# Altium schematic symbol library Personal_Schematic_Library_2022.SchLib: 863 symbols (part 8 of 8)
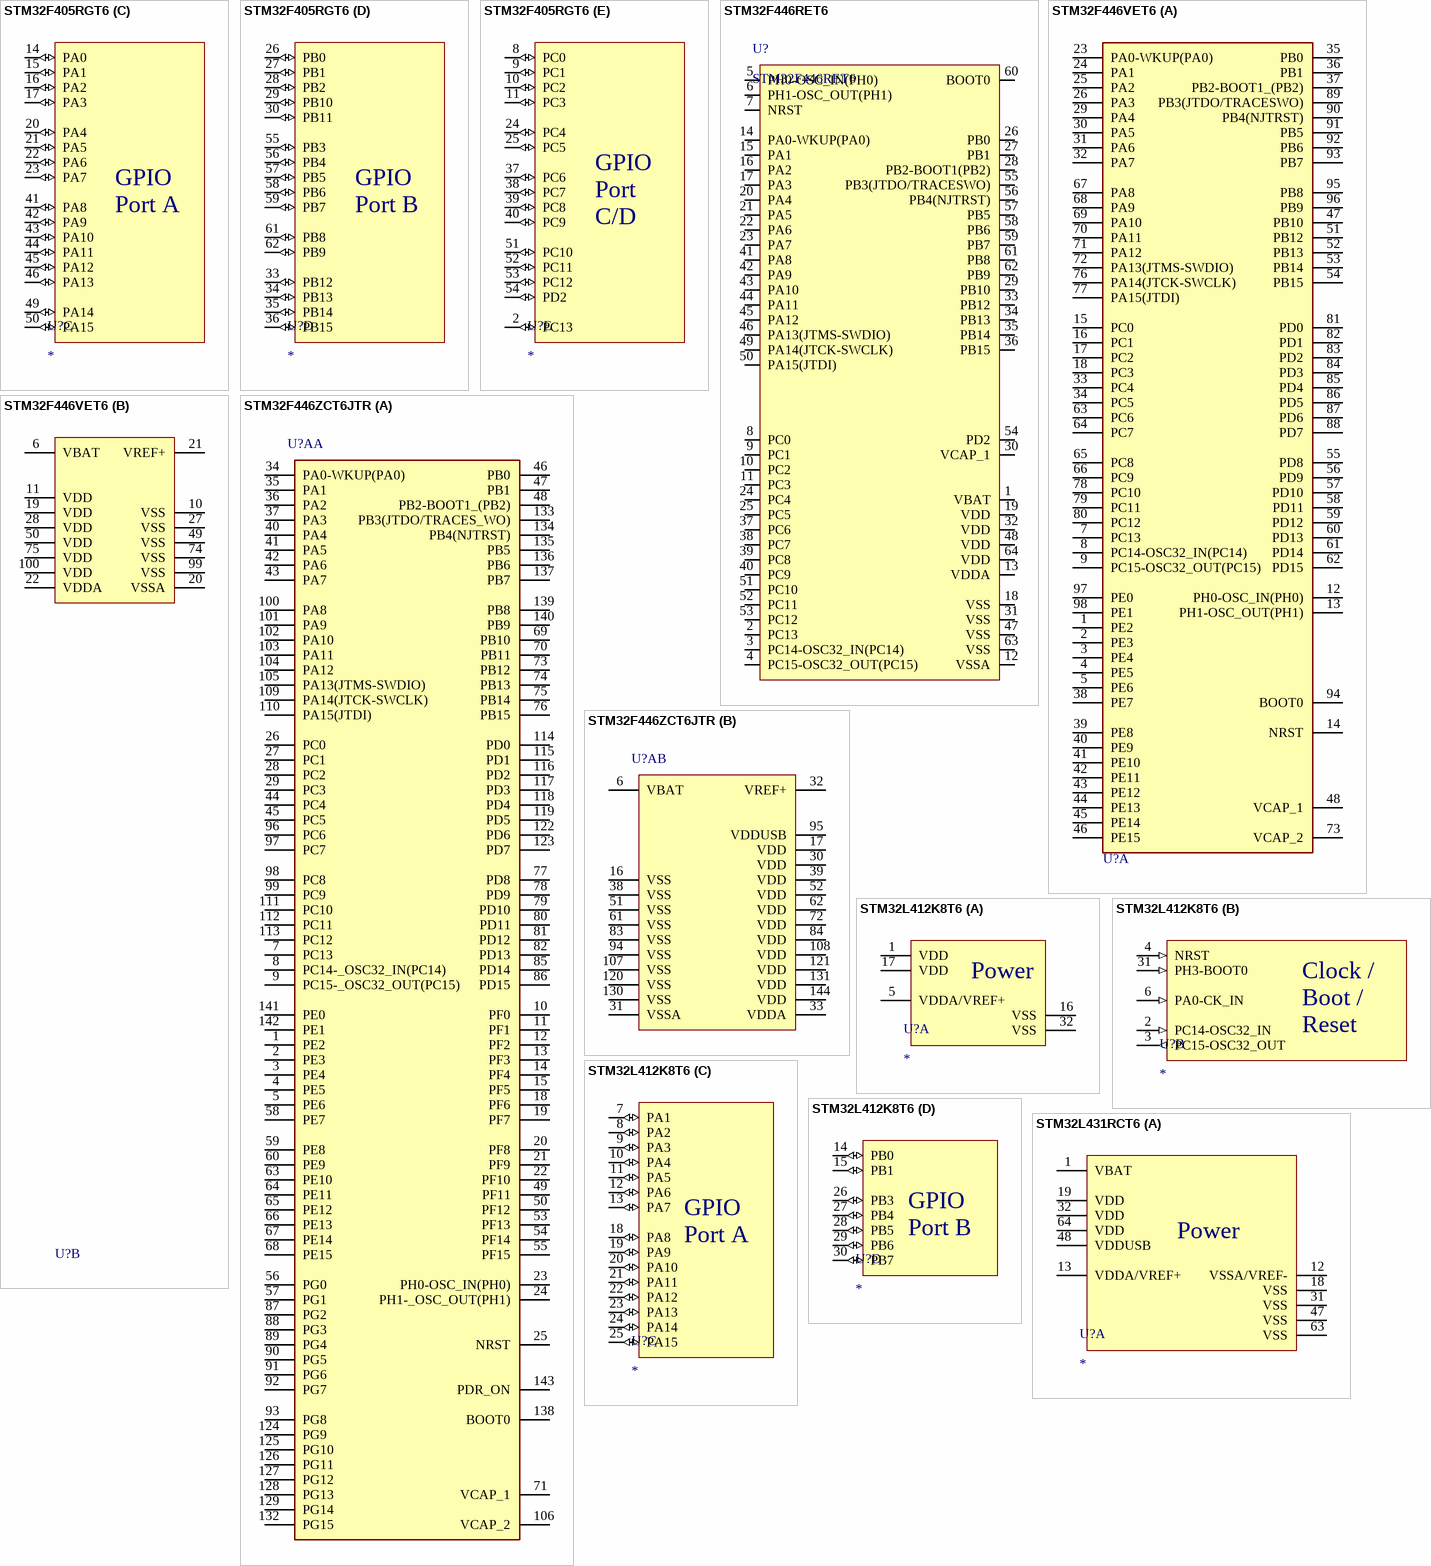
[diagram p36: symbols STM32F405RGT6 to STM32L431RCT6]

## STM32F405RGT6
designator U?
IC MCU 32BIT 1MB FLASH 64LQFP; Manufacturer 1: STMicroelectronics; Manufacturer Part Number 1: STM32F405RGT6; Package/Footprint: 64-LQFP; Supplier 1: Digi-Key; Supplier Part Number 1: 497-11767-ND
footprint STM_LQFP64 (Thin QFP, 64-Leads, Body 10x10mm, Pitch 0.5mm, IPC Medium Density)
part A pins: 1 VBAT (power), 12 VSSA/VREF- (power), 13 VDDA/VREF+ (power), 18 VSS (power), 19 VDD (power), 31 VCAP1 (power), 32 VDD (power), 47 VCAP2 (power), 48 VDD (power), 63 VSS (power), 64 VDD (power)
part B pins: 3 PC14-OSC32_IN (in), 4 PC15-OSC32_OUT (out), 5 PH0-OSC-IN (in), 6 PH1-OSC-OUT (out), 7 NRST (in), 60 BOOT0 (in)
part C pins: 14 PA0 (io), 15 PA1 (io), 16 PA2 (io), 17 PA3 (io), 20 PA4 (io), 21 PA5 (io), 22 PA6 (io), 23 PA7 (io), 41 PA8 (io), 42 PA9 (io), 43 PA10 (io), 44 PA11 (io), 45 PA12 (io), 46 PA13 (io), 49 PA14 (io), 50 PA15 (io)
part D pins: 26 PB0 (io), 27 PB1 (io), 28 PB2 (io), 29 PB10 (io), 30 PB11 (io), 33 PB12 (io), 34 PB13 (io), 35 PB14 (io), 36 PB15 (io), 55 PB3 (io), 56 PB4 (io), 57 PB5 (io), 58 PB6 (io), 59 PB7 (io), 61 PB8 (io), 62 PB9 (io)
part E pins: 2 PC13 (io), 8 PC0 (io), 9 PC1 (io), 10 PC2 (io), 11 PC3 (io), 24 PC4 (io), 25 PC5 (io), 37 PC6 (io), 38 PC7 (io), 39 PC8 (io), 40 PC9 (io), 51 PC10 (io), 52 PC11 (io), 53 PC12 (io), 54 PD2 (io)
part A text: Power
part B text: Clock / / Boot / / Reset
part C text: GPIO / Port A
part D text: GPIO / Port B
part E text: GPIO / Port C/D

## STM32F446RET6
designator U?
IC MCU 32BIT 512KB FLASH 64LQFP; Manufacturer 1: STMicroelectronics; Manufacturer Part Number 1: LF80CDT-TR; Supplier 1: Digi-Key; Supplier Part Number 1: 497-15376-ND
footprint STM_LQFP64_N (Thin QFP, 64-Leads, Body 10x10mm, Pitch 0.5mm, IPC Medium Density)
pins: 1 VBAT, 2 PC13 "PC13/EVENTOUT/TAMP_1/WKUP1", 3 PC14-OSC32_IN(PC14) "PC14/EVENTOUT/OSC32_IN", 4 PC15-OSC32_OUT(PC15) "PC15/EVENTOUT/OSC32_OUT", 5 PH0-OSC_IN(PH0) "PH0/EVENTOUT/OSC_IN", 6 PH1-OSC_OUT(PH1) "PH1/EVENTOUT/OSC_OUT", 7 NRST, 8 PC0 "PC0/SAI1_MCLK_B,OTG_HS_ULPI_STP,FMC_SDNWE,EVENTOUT/ADC123_IN10", 9 PC1 "PC1/SPI3_MOSI/I2S3_SD,SAI1_SD_A,SPI2_MOSI/I2S2_SD,EVENTOUT/ADC123_IN11", 10 PC2 "PC2/SPI2_MISO,OTG_HS_ULPI_DIR,FMC_SDNE0,EVENTOUT/ADC123_IN12", 11 PC3 "PC3/SPI2_MOSI/I2S2_SD,OTG_HS_ULPI_NXT,FMC_SDCKE0,EVENTOUT/ADC123_IN13", 12 VSSA, 13 VDDA, 14 PA0-WKUP(PA0) "PA0-WKUP(PA0)/TIM2_CH1/TIM2_ETR,TIM5_CH1,TIM8_ETR,USART2_CTS,UART4_TX,EVENTOUT/ADC123_IN0,WKUP0/TAMP_2", 15 PA1 "PA1/TIM2_CH2,TIM5_CH2,USART2_RTS,UART4_RX,QUADSPI_BK1_IO3,SAI2_MCLK_B,EVENTOUT/ADC123_IN1", 16 PA2 "PA2/TIM2_CH3,TIM5_CH3,TIM9_CH1,USART2_TX,SAI2_SCK_B,EVENTOUT/ADC123_IN2", 17 PA3 "PA3/TIM2_CH4,TIM5_CH4,TIM9_CH2,SAI1_FS_A,USART2_RX,OTG_HS_ULPI_D0,EVENTOUT/ADC123_IN3", 18 VSS, 19 VDD, 20 PA4 "PA4/SPI1_NSS/I2S1_WS,SPI3_NSS/I2S3_WS,USART2_CK,OTG_HS_SOF,DCMI_HSYNC,EVENTOUT/ADC12_IN4,DAC_OUT1", 21 PA5 "PA5/TIM2_CH1/TIM2_ETR,TIM8_CH1N,SPI1_SCK/I2S1_CK,OTG_HS_ULPI_CK,EVENTOUT/ADC12_IN5,DAC_OUT2", 22 PA6 "PA6/TIM1_BKIN,TIM3_CH1,TIM8_BKIN,SPI1_MISO,I2S2_MCK,TIM13_CH1,DCMI_PIXCLK,EVENTOUT/ADC12_IN6", 23 PA7 "PA7/TIM1_CH1N,TIM3_CH2,TIM8_CH1N,SPI1_MOSI/I2S1_SD,TIM14_CH1,FMC_SDNWE,EVENTOUT/ADC12_IN7", 24 PC4 "PC4/I2S1_MCK,SPDIFRX_IN2,FMC_SDNE0,EVENTOUT/ADC12_IN14", 25 PC5 "PC5/USART3_RX,SPDIFRX_IN3,FMC_SDCKE0,EVENTOUT/ADC12_IN15", 26 PB0 "PB0/TIM1_CH2N,TIM3_CH3,TIM8_CH2N,SPI3_MOSI/I2S3_SD,UART4_CTS,OTG_HS_ULPI_D1,SDIO_D1,EVENTOUT/ADC12_IN8", 27 PB1 "PB1/TIM1_CH3N,TIM3_CH4,TIM8_CH3N,OTG_HS_ULPI_D2,SDIO_D2,EVENTOUT/ADC12_IN9", 28 PB2-BOOT1(PB2) "PB2-BOOT1(PB2)/TIM2_CH4,SAI1_SD_A,SPI3_MOSI/I2S3_SD,QUADSPI_CLK,OTG_HS_ULPI_D4,SDIO_CK,EVENTOUT", 29 PB10 "PB10/TIM2_CH3,I2C2_SCL,SPI2_SCK/I2S2_CK,SAI1_SCK_A,USART3_TX,OTG_HS_ULPI_D3,EVENTOUT", 30 VCAP_1, 31 VSS, 32 VDD, 33 PB12 "PB12/TIM1_BKIN,I2C2_SMBA,SPI2_NSS/I2S2_WS,SAI1_SCK_B,USART3_CK,CAN2_RX,OTG_HS_ULPI_D5,OTG_HS_ID,EVENTOUT", 34 PB13 "PB13/TIM1_CH1N,SPI2_SCK/I2S2_CK,USART3_CTS,CAN2_TX,OTG_HS_ULPI_D6,EVENTOUT/OTG_HS_VBUS", 35 PB14 "PB14/TIM1_CH2N,TIM8_CH2N,SPI2_MISO,USART3_RTS,TIM12_CH1,OTG_HS_DM,EVENTOUT", 36 PB15 "PB15/RTC_REFIN,TIM1_CH3N,TIM8_CH3N,SPI2_MOSI/I2S2_SD,TIM12_CH2,OTG_HS_DP,EVENTOUT", 37 PC6 "PC6/TIM3_CH1,TIM8_CH1,FMPI2C1_SCL,I2S2_MCK,USART6_TX,SDIO_D6,DCMI_D0,EVENTOUT", 38 PC7 "PC7/TIM3_CH2,TIM8_CH2,FMPI2C1_SDA,SPI2_SCK/I2S2_CK,I2S3_MCK,SPDIFRX_IN1,USART6_RX,SDIO_D7,DCMI_D1,EVENTOUT", 39 PC8 "PC8/TRACED0,TIM3_CH3,TIM8_CH3,UART5_RTS,USART6_CK,SDIO_D0,DCMI_D2,EVENTOUT", 40 PC9 "PC9/MCO2,TIM3_CH4,TIM8_CH4,I2C3_SDA,I2S_CKIN,UART5_CTS,QUADSPI_BK1_IO0,SDIO_D1,DCMI_D3,EVENTOUT", 41 PA8 "PA8/MCO1,TIM1_CH1,I2C3_SCL,USART1_CK,OTG_FS_SOF,EVENTOUT", 42 PA9 "PA9/TIM1_CH2,I2C3_SMBA,SPI2_SCK/I2S2_CK,SAI1_SD_B,USART1_TX,DCMI_D0,EVENTOUT/OTG_FS_VBUS", 43 PA10 "PA10/TIM1_CH3,USART1_RX,OTG_FS_ID,DCMI_D1,EVENTOUT", 44 PA11 "PA11/TIM1_CH4,USART1_CTS,CAN1_RX,OTG_FS_DM,EVENTOUT", 45 PA12 "PA12/TIM1_ETR,USART1_RTS,SAI2_FS_B,CAN1_TX,OTG_FS_DP,EVENTOUT", 46 PA13(JTMS-SWDIO) "PA13/JTMS-SWDIO,EVENTOUT", 47 VSS, 48 VDD, 49 PA14(JTCK-SWCLK) "PA14/JTCK-SWCLK,EVENTOUT", 50 PA15(JTDI) "PA15/JTDI,TIM2_CH1/TIM2_ETR,HDMI_CEC,SPI1_NSS/I2S1_WS,SPI3_NSS/I2S3_WS,UART4_RTS,EVENTOUT", 51 PC10 "PC10/SPI3_SCK/I2S3_CK,USART3_TX,UART4_TX,QUADSPI_BK1_IO1,SDIO_D2,DCMI_D8,EVENTOUT", 52 PC11 "PC11/SPI3_MISO,USART3_RX,UART4_RX,QUADSPI_BK2_NCS,SDIO_D3,DCMI_D4,EVENTOUT", 53 PC12 "PC12/I2C2_SDA,SPI3_MOSI/I2S3_SD,USART3_CK,UART5_TX,SDIO_CK,DCMI_D9,EVENTOUT", 54 PD2 "PD2/TIM3_ETR,UART5_RX,SDIO_CMD,DCMI_D11,EVENTOUT", 55 PB3(JTDO/TRACESWO) "PB3/JTDO/TRACESWO,TIM2_CH2,I2C2_SDA,SPI1_SCK/I2S1_CK,SPI3_SCK/I2S3_CK,EVENTOUT", 56 PB4(NJTRST) "PB4/NJTRST,TIM3_CH1,I2C3_SDA,SPI1_MISO,SPI3_MISO,SPI2_NSS/I2S2_WS,EVENTOUT", 57 PB5 "PB5/TIM3_CH2,I2C1_SMBA,SPI1_MOSI/I2S1_SD,SPI3_MOSI/I2S3_SD,CAN2_RX,OTG_HS_ULPI_D7,FMC_SDCKE1,DCMI_D10,EVENTOUT", 58 PB6 "PB6/TIM4_CH1,HDMI_CEC,I2C1_SCL,USART1_TX,CAN2_TX,QUADSPI_BK1_NCS,FMC_SDNE1,DCMI_D5,EVENTOUT", 59 PB7 "PB7/TIM4_CH2,I2C1_SDA,USART1_RX,SPDIFRX_IN0,FMC_NL,DCMI_VSYNC,EVENTOUT", 60 BOOT0 "BOOT0/VPP", 61 PB8 "PB8/TIM2_CH1/TIM2_ETR,TIM4_CH3,TIM10_CH1,I2C1_SCL,CAN1_RX,SDIO_D4,DCMI_D6,EVENTOUT", 62 PB9 "PB9/TIM2_CH2,TIM4_CH4,TIM11_CH1,I2C1_SDA,SPI2_NSS/I2S2_WS,SAI1_FS_B,CAN1_TX,SDIO_D5,DCMI_D7,EVENTOUT", 63 VSS, 64 VDD

## STM32F446VET6
designator U?
IC MCU 32BIT 512KB FLASH 100LQFP; Manufacturer 1: STMicroelectronics; Manufacturer Part Number 1: STM32F446VET6TR; Power Supplies: 1.8/3.3V; Speed: 180RPM; Max Supply Current: 115mA; Qualification Status: Not Qualified; Package/Footprint: 100-LQFP; Supplier 1: Digi-Key; Package Code: QFP; Number of Pins: 100; Surface Mount: Yes; Terminal Pitch: 0.5mm; Supplier Part Number 1: 497-19359-1-ND; Mounting Type: SMD
footprint STM32F446VET6 (LQFP100)
part A pins: 1 PE2, 2 PE3, 3 PE4, 4 PE5, 5 PE6, 7 PC13, 8 PC14-OSC32_IN(PC14), 9 PC15-OSC32_OUT(PC15), 12 PH0-OSC_IN(PH0), 13 PH1-OSC_OUT(PH1), 14 NRST, 15 PC0, 16 PC1, 17 PC2, 18 PC3, 23 PA0-WKUP(PA0), 24 PA1, 25 PA2, 26 PA3, 29 PA4, 30 PA5, 31 PA6, 32 PA7, 33 PC4, 34 PC5, 35 PB0, 36 PB1, 37 PB2-BOOT1_(PB2), 38 PE7, 39 PE8, 40 PE9, 41 PE10, 42 PE11, 43 PE12, 44 PE13, 45 PE14, 46 PE15, 47 PB10, 48 VCAP_1, 51 PB12, 52 PB13, 53 PB14, 54 PB15, 55 PD8, 56 PD9, 57 PD10, 58 PD11, 59 PD12, 60 PD13, 61 PD14, 62 PD15, 63 PC6, 64 PC7, 65 PC8, 66 PC9, 67 PA8, 68 PA9, 69 PA10, 70 PA11, 71 PA12, 72 PA13(JTMS-SWDIO), 73 VCAP_2, 76 PA14(JTCK-SWCLK), 77 PA15(JTDI), 78 PC10, 79 PC11, 80 PC12, 81 PD0, 82 PD1, 83 PD2, 84 PD3, 85 PD4, 86 PD5, 87 PD6, 88 PD7, 89 PB3(JTDO/TRACESWO), 90 PB4(NJTRST), 91 PB5, 92 PB6, 93 PB7, 94 BOOT0, 95 PB8, 96 PB9, 97 PE0, 98 PE1
part B pins: 6 VBAT, 10 VSS, 11 VDD, 19 VDD, 20 VSSA, 21 VREF+, 22 VDDA, 27 VSS, 28 VDD, 49 VSS, 50 VDD, 74 VSS, 75 VDD, 99 VSS, 100 VDD

## STM32F446ZCT6JTR
designator U?A
IC MCU 32BIT 256KB FLASH 144LQFP
footprint QFP50P2200X2200X160-144N
part A pins: 1 PE2, 2 PE3, 3 PE4, 4 PE5, 5 PE6, 7 PC13, 8 PC14-_OSC32_IN(PC14), 9 PC15-_OSC32_OUT(PC15), 10 PF0, 11 PF1, 12 PF2, 13 PF3, 14 PF4, 15 PF5, 18 PF6, 19 PF7, 20 PF8, 21 PF9, 22 PF10, 23 PH0-OSC_IN(PH0), 24 PH1-_OSC_OUT(PH1), 25 NRST, 26 PC0, 27 PC1, 28 PC2, 29 PC3, 34 PA0-WKUP(PA0), 35 PA1, 36 PA2, 37 PA3, 40 PA4, 41 PA5, 42 PA6, 43 PA7, 44 PC4, 45 PC5, 46 PB0, 47 PB1, 48 PB2-BOOT1_(PB2), 49 PF11, 50 PF12, 53 PF13, 54 PF14, 55 PF15, 56 PG0, 57 PG1, 58 PE7, 59 PE8, 60 PE9, 63 PE10, 64 PE11, 65 PE12, 66 PE13, 67 PE14, 68 PE15, 69 PB10, 70 PB11, 71 VCAP_1, 73 PB12, 74 PB13, 75 PB14, 76 PB15, 77 PD8, 78 PD9, 79 PD10, 80 PD11, 81 PD12, 82 PD13, 85 PD14, 86 PD15, 87 PG2, 88 PG3, 89 PG4, 90 PG5, 91 PG6, 92 PG7, 93 PG8, 96 PC6, 97 PC7, 98 PC8, 99 PC9, 100 PA8, 101 PA9, 102 PA10, 103 PA11, 104 PA12, 105 PA13(JTMS-SWDIO), 106 VCAP_2, 109 PA14(JTCK-SWCLK), 110 PA15(JTDI), 111 PC10, 112 PC11, 113 PC12, 114 PD0, 115 PD1, 116 PD2, 117 PD3, 118 PD4, 119 PD5, 122 PD6, 123 PD7, 124 PG9, 125 PG10, 126 PG11, 127 PG12, 128 PG13, 129 PG14, 132 PG15, 133 PB3(JTDO/TRACES_WO), 134 PB4(NJTRST), 135 PB5, 136 PB6, 137 PB7, 138 BOOT0, 139 PB8, 140 PB9, 141 PE0, 142 PE1, 143 PDR_ON
part B pins: 6 VBAT, 16 VSS, 17 VDD, 30 VDD, 31 VSSA, 32 VREF+, 33 VDDA, 38 VSS, 39 VDD, 51 VSS, 52 VDD, 61 VSS, 62 VDD, 72 VDD, 83 VSS, 84 VDD, 94 VSS, 95 VDDUSB, 107 VSS, 108 VDD, 120 VSS, 121 VDD, 130 VSS, 131 VDD, 144 VDD

## STM32L412K8T6
designator U?
IC MCU 32BIT 64KB FLASH 32LQFP; Manufacturer 1: STMicroelectronics; Manufacturer Part Number 1: STM32L412K8T6; Package/Footprint: 32-LQFP; Supplier 1: Digi-Key; Supplier Part Number 1: 497-STM32L412K8T6-ND
footprint STM-LQFP32
part A pins: 1 VDD (power), 5 VDDA/VREF+ (power), 16 VSS (power), 17 VDD (power), 32 VSS (power)
part B pins: 2 PC14-OSC32_IN (in), 3 PC15-OSC32_OUT (out), 4 NRST (in), 6 PA0-CK_IN (in), 31 PH3-BOOT0 (in)
part C pins: 7 PA1 (io), 8 PA2 (io), 9 PA3 (io), 10 PA4 (io), 11 PA5 (io), 12 PA6 (io), 13 PA7 (io), 18 PA8 (io), 19 PA9 (io), 20 PA10 (io), 21 PA11 (io), 22 PA12 (io), 23 PA13 (io), 24 PA14 (io), 25 PA15 (io)
part D pins: 14 PB0 (io), 15 PB1 (io), 26 PB3 (io), 27 PB4 (io), 28 PB5 (io), 29 PB6 (io), 30 PB7 (io)
part A text: Power
part B text: Clock / / Boot / / Reset
part C text: GPIO / Port A
part D text: GPIO / Port B

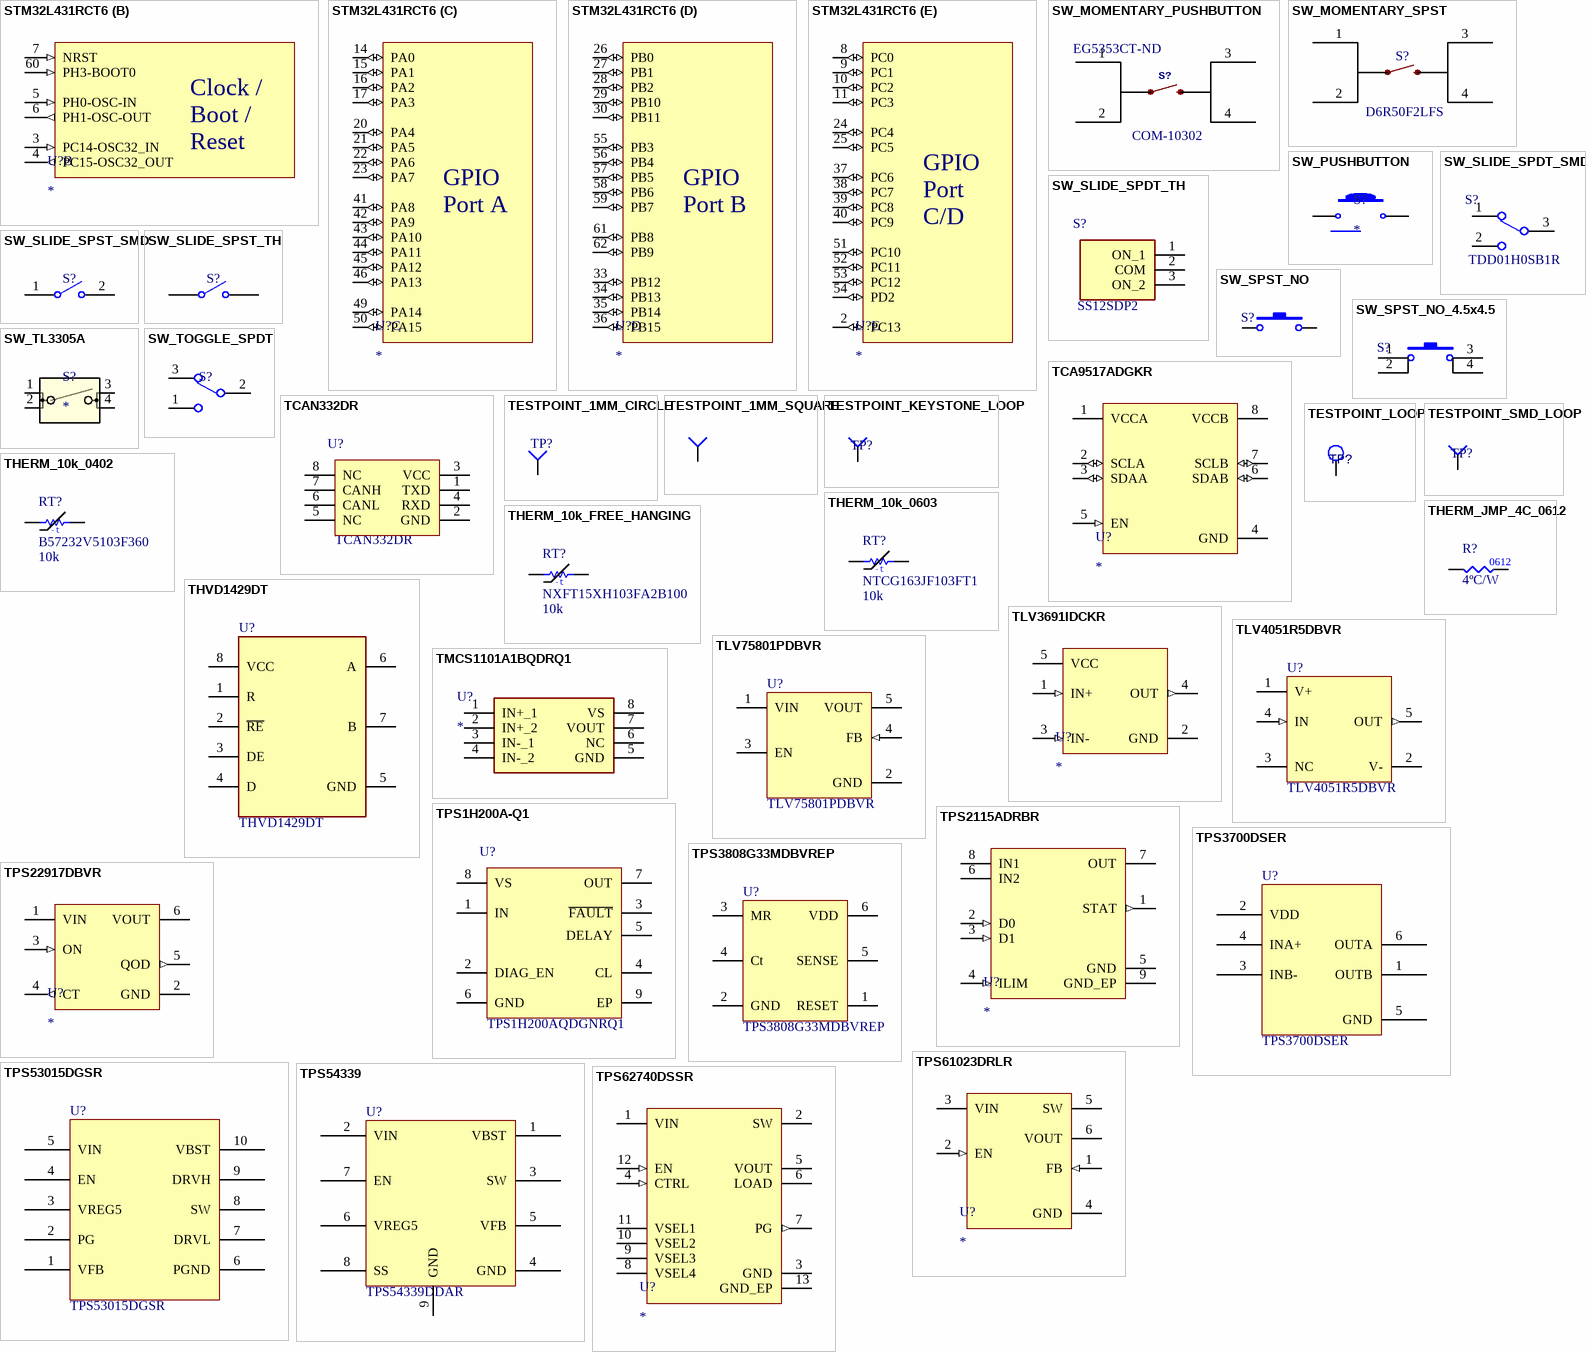
[diagram p28: symbols STM32L431RCT6 to TPS62740DSSR]

## STM32L431RCT6
designator U?
IC MCU 32BIT 256KB FLASH 64LQFP; Manufacturer 1: STMicroelectronics; Manufacturer Part Number 1: STM32L431RCT6; Package/Footprint: 64-LQFP; Supplier 1: Digi-Key; Supplier Part Number 1: 497-17960-ND
footprint STM_LQFP64 (Thin QFP, 64-Leads, Body 10x10mm, Pitch 0.5mm, IPC Medium Density)
part A pins: 1 VBAT (power), 12 VSSA/VREF- (power), 13 VDDA/VREF+ (power), 18 VSS (power), 19 VDD (power), 31 VSS (power), 32 VDD (power), 47 VSS (power), 48 VDDUSB (power), 63 VSS (power), 64 VDD (power)
part B pins: 3 PC14-OSC32_IN (in), 4 PC15-OSC32_OUT (out), 5 PH0-OSC-IN (in), 6 PH1-OSC-OUT (out), 7 NRST (in), 60 PH3-BOOT0 (in)
part C pins: 14 PA0 (io), 15 PA1 (io), 16 PA2 (io), 17 PA3 (io), 20 PA4 (io), 21 PA5 (io), 22 PA6 (io), 23 PA7 (io), 41 PA8 (io), 42 PA9 (io), 43 PA10 (io), 44 PA11 (io), 45 PA12 (io), 46 PA13 (io), 49 PA14 (io), 50 PA15 (io)
part D pins: 26 PB0 (io), 27 PB1 (io), 28 PB2 (io), 29 PB10 (io), 30 PB11 (io), 33 PB12 (io), 34 PB13 (io), 35 PB14 (io), 36 PB15 (io), 55 PB3 (io), 56 PB4 (io), 57 PB5 (io), 58 PB6 (io), 59 PB7 (io), 61 PB8 (io), 62 PB9 (io)
part E pins: 2 PC13 (io), 8 PC0 (io), 9 PC1 (io), 10 PC2 (io), 11 PC3 (io), 24 PC4 (io), 25 PC5 (io), 37 PC6 (io), 38 PC7 (io), 39 PC8 (io), 40 PC9 (io), 51 PC10 (io), 52 PC11 (io), 53 PC12 (io), 54 PD2 (io)
part A text: Power
part B text: Clock / / Boot / / Reset
part C text: GPIO / Port A
part D text: GPIO / Port B
part E text: GPIO / Port C/D

## SW_MOMENTARY_PUSHBUTTON
designator S?  Manufacturer Part Number 1: COM-10302  Supplier Part Number 2: EG5353CT-ND
TL3305A Series SPST 12 V 4.5 x 4.5 mm 260 gf Top Actuated SMT Tactile Switch; Manufacturer 1: SparkFun; Manufacturer: E-Switch; Manufacturer Part Number: TL3305AF260QG; Package/Footprint: TH; Mechanical Life: 200000Cycles; Illumination Type: Non-Illuminated; Operating Force: 260gf; Switch Travel: 0.2mm; Switch Function: Off-Mom; Actuator Type: Standard; Supplier 1: Digi-Key; Mounting Type: TH; Supplier Part Number 1: 1568-1332-ND; Verified: No; Supplier 2: Digi-Key; RoHS: Yes; Category: Tactile Switches; Stock 2: 79505; Pricing 2: 1=0.21000, 10=0.20500, 25=0.19440, 100=0.17600, 250=0.16048, 500=0.14918, 1000=0.12726 (USD); Mount: Surface Mount; Min Operating Temperature: -20°C; Max Operating Temperature: 70°C; Packaging: Tape and Reel; Termination: Gull Wing; Throw Configuration: SPST; Lead Free: Lead Free; ComponentLink1URL: http://www.farnell.com/datasheets/2554191.pdf?src-supplier=Farnell; ComponentLink1Description: http://www.farnell.com/datasheets/2554191.pdf?src-supplier=Farnell; ComponentLink2URL: http://spec_sheets.e-switch.com/specs/P010471.pdf?src-supplier=Mouser; ComponentLink2Description: http://spec_sheets.e-switch.com/specs/P010471.pdf?src-supplier=Mouser; ComponentLink3URL: http://spec_sheets.e-switch.com/specs/P010471.pdf?src-supplier=Digi-Key; ComponentLink3Description: http://spec_sheets.e-switch.com/specs/P010471.pdf?src-supplier=Digi-Key; ComponentLink4URL: http://www.farnell.com/datasheets/2554191.pdf?src-supplier=Newark; ComponentLink4Description: http://www.farnell.com/datasheets/2554191.pdf?src-supplier=Newark; ComponentLink5URL: http://www.farnell.com/datasheets/2554191.pdf?src-supplier=Element14; ComponentLink5Description: http://www.farnell.com/datasheets/2554191.pdf?src-supplier=Element14; ComponentLink6URL: http://spec_sheets.e-switch.com/specs/P010471.pdf?src-supplier=NAC+Semi; ComponentLink6Description: http://spec_sheets.e-switch.com/specs/P010471.pdf?src-supplier=NAC+Semi
footprint TACTILE_SWITCH_PTH_12MM
pins: 1, 2, 3, 4

## SW_MOMENTARY_SPST
designator S?  Manufacturer Part Number 1: D6R50F2LFS
SWITCH PUSH SPST-NO 0.1A 32V; Manufacturer 1: ITT C&K; Current Rating: 100mA; Throw Configuration: SPST; Operating Force: 2.5N; Actuator Type: Round, Button; Switch Function: Off-Mom; Electrical Life: 250000Cycles; Actuator Length: 7mm; Row Spacing: 5mm; Supplier 1: Digi-Key; Contact Plating: Silver; Number of Terminals: 4; Max Voltage Rating (DC): 32V; Voltage Rating (DC): 32V; Max Current Rating: 100mA; Orientation: Straight; Terminal Pitch: 5mm; Supplier Part Number 1: 401-1993-ND
footprint D6R
pins: 1, 2, 3, 4

## SW_PUSHBUTTON
designator S?
SMT 3.0 X 2.6 MM TACT SWITCH WIT; Manufacturer 1: Würth Elektronik; Manufacturer Part Number 1: 435151014824; Supplier 1: Digi-Key; Supplier Part Number 1: 732-435151014824CT-ND
footprint TACTILE_SWITCH_SMD
pins: 1, 2

## SW_SLIDE_SPDT_SMD
designator S?  Manufacturer Part Number 1: TDD01H0SB1R
SWITCH SLIDE DIP SPDT 25MA 24V; Manufacturer 1: C&K; Voltage Rating: 24VDC; Supplier 1: Digi-Key; Supplier Part Number 1: CKN10546CT-ND
footprint TDD01_SPDT
pins: 1, 2, 3

## SW_SLIDE_SPDT_TH
designator S?  Manufacturer Part Number 1: SS12SDP2
SWITCH SLIDE SPDT 100MA 30V; Manufacturer 1: NKK Switches; Switch Travel: 2mm; Switch Function: On-On; Voltage Rating (AC): 28V; Supplier 1: Digi-Key; Throw Configuration: SPDT; Orientation: Straight; Voltage Rating (DC): 30V; Max Voltage Rating (DC): 30V; Supplier Part Number 1: 360-2133-ND
footprint SS12SDP2
pins: 1 ON_1, 2 COM, 3 ON_2

## SW_SLIDE_SPST_SMD
designator S?
SWITCH SLIDE DIP SPST 25MA 24V; Manufacturer 1: C&K; Manufacturer Part Number 1: SDA01H0SB; Voltage Rating: 24VDC; Supplier 1: Digi-Key; Supplier Part Number 1: CKN10914-ND
footprint SDA01_SPST
pins: 1, 2

## SW_SLIDE_SPST_TH
designator S?
SWITCH SLIDE SPST 500mA (DC) 8.5A (AC) 125V; Manufacturer 1: CW Industries; Manufacturer Part Number 1: GF-123-0054; Supplier 1: Digi-Key; Supplier Part Number 1: CWI333-ND; Voltage Rating: 125V; Current Rating: 500mA
footprint GF1230054
pins: 1, 2

## SW_SPST_NO
designator S?
SMT 3.0 X 2.6 MM TACT SWITCH WIT; Manufacturer Part Number 1: 435151014824; Manufacturer 1: Würth Elektronik; Mounting Type: SMD; Supplier 1: Digi-Key; Supplier Part Number 1: 732-435151014824CT-ND
footprint B3U-1000P (TACTILE SWITCH GREY)
pins: 1, 2

## SW_SPST_NO_4.5x4.5
designator S?
SWITCH TACTILE SPST-NO 50MA 12V; Manufacturer Part Number 1: TL3305AF260QG; Manufacturer 1: E-Switch; Mounting Type: SMD; Supplier 1: Digi-Key; Supplier Part Number 1: EG5353CT-ND
footprint SPST_PUSHBUTTON_TL3305AF260QG
pins: 1, 2, 3, 4

## SW_TL3305A
designator S?
TL3305A Series SPST 12 V 4.5 x 4.5 mm 260 gf Top Actuated SMT Tactile Switch; Manufacturer Part Number: TL3305AF260QG
footprint SW_TL3305AF260QG
pins: 1, 2, 3, 4

## SW_TOGGLE_SPDT
designator S?
SWITCH TOGGLE SPDT 5A 120V; Manufacturer 1: E-Switch; Manufacturer Part Number 1: 100SP1T1B4M2QE; Voltage Rating (DC): 28V; Package/Footprint: TH; Supplier 1: Digi-Key; Mounting Type: TH; Throw Configuration: SPDT; Supplier Part Number 1: EG2355-ND
footprint 100SP1T1B4M2QE
pins: 1, 2, 3

## TCA9517ADGKR
designator U?
IC XLTR VL BIDIR 8-VSSOP; Manufacturer 1: Texas Instruments; Manufacturer Part Number 1: TCA9517ADGKR; Package/Footprint: 8-TSSOP; Supplier 1: Digikey; Supplier Part Number 1: 296-39220-1-ND
footprint TI_8-VSSOP
pins: 1 VCCA (power), 2 SCLA (io), 3 SDAA (io), 4 GND (power), 5 EN (in), 6 SDAB (io), 7 SCLB (io), 8 VCCB (power)

## TCAN332DR
designator U?  Manufacturer Part Number 1: TCAN332DR
IC CAN TRANSCEIVER; Manufacturer 1: Texas Instruments; Supplier 1: Digi-Key; Supplier Part Number 1: 296-43711-1-ND
pins: 1 TXD, 2 GND, 3 VCC, 4 RXD, 5 NC, 6 CANL, 7 CANH, 8 NC

## TESTPOINT_1MM_CIRCLE
designator TP?  (no BOM)
TESTPOINT 1MM CIRCLE
footprint TESTPOINT_CIRCLE_1MM
pins: 1 =value

## TESTPOINT_1MM_SQUARE
designator TP?  (no BOM)
TESTPOINT 1MM SQUARE
footprint TESTPOINT_SQUARE_1MM
pins: 1 =value

## TESTPOINT_KEYSTONE_LOOP
designator TP?
PC TEST POINT MINIATURE; Manufacturer 1: Keystone Electronics; Manufacturer Part Number 1: 5019; Package/Footprint: SMD; Supplier 1: Digi-Key; Mounting Type: SMD; Supplier Part Number 1: 36-5019CT-ND
footprint KEYSTONE_5019 (PC TEST POINT MINIATURE)
pins: 1 =value

## TESTPOINT_LOOP
designator TP?
TESTPOINT THRUHOLE; Manufacturer 1: Keystone Electronics; Manufacturer Part Number 1: 5002; Package/Footprint: TH; Supplier Part Number 1: 36-5002-ND; Supplier 1: Digi-Key; Mounting Type: TH
footprint TESTPOINT_LOOP
pins: 1

## TESTPOINT_SMD_LOOP
designator TP?
TESTPOINT SMD LOOP; Manufacturer 1: Harwin; Manufacturer Part Number 1: S1751-46R; Supplier 1: Digi-Key; Mounting Type: SMD; Package/Footprint: SMD; Supplier Part Number 1: 952-1478-1-ND
footprint S1751-46R (SMD LOOP TESTPOINT)
pins: 1 =value

## THERM_10k_0402
designator RT?  Manufacturer Part Number: B57232V5103F360  Resistance: 10k
NTC Thermistor, 10000ohm, Surface Mount; Manufacturer: TDK EPCOS; Supplier 1: Digi-Key; Supplier Part Number 1: 495-7391-1-ND
pins: 1, 2
text: -t

## THERM_10k_0603
designator RT?  Manufacturer Part Number 1: NTCG163JF103FT1  Resistance: 10k
THERMISTOR NTC 10K 1% OHM 0603; Manufacturer 1: TDK; Supplier 1: Digi-Key; Supplier Part Number 1: 445-2554-1-ND
footprint RESC0603(1608)_N (Chip Resistor, Body 1.6x0.8mm, IPC Medium Density)
pins: 1, 2
text: -t

## THERM_10k_FREE_HANGING
designator RT?  Manufacturer Part Number 1: NXFT15XH103FA2B100  Resistance: 10k
NTC Thermistor, 10000ohm, Surface Mount; Manufacturer 1: Murata; Power Rating: 7.5mW; Max Power Dissipation: 100mW; Supplier 1: Digi-Key; Supplier Part Number 1: 490-5630-ND
footprint HDR1X2 - PTH Thermistor (Connector; Header; 2 Position)
pins: 1, 2
text: -t

## THERM_JMP_4C_0612
designator R?  value 4ºC/W
THERMAL JUMPER 0612 30 MIL LEAD-; Manufacturer 1: Vishay Dale Thin Film; Manufacturer Part Number 1: THJP0612AST1; Supplier Part Number 1: 764-THJP0612AST1CT-ND; Supplier 1: Digi-Key; Mounting Type: SMD; Package: 0612
footprint RES0612
pins: 1, 2

## THVD1429DT
designator U?  Manufacturer Part Number 1: THVD1429DT
IC RS485 TRANSCEIVER HALF 1/1 8SOIC; Manufacturer 1: Texas Instruments; Package/Footprint: 8-SOIC; Verified: No; Supplier 1: Digi-Key; Supplier Part Number 1: 296-53046-1ND; Mounting Type: SMD
footprint 8-SOIC_M (SOIC, 8-Leads, Body 5x4mm, Pitch 1.27mm, IPC Low Density)
pins: 1 R "Receive data output", 2 ~{RE} "Receiver enable, active low (2-M Ohm internal pull up)", 3 DE "Driver enable, active high (2-M Ohm internal pull down)", 4 D "Driver data input", 5 GND (power) "Device ground", 6 A "Bus I/O port A (complimentary to B)", 7 B "Bus I/O port A (complimentary to A)", 8 VCC "3.3V to 5V supply"

## TLV3691IDCKR
designator U?
IC COMPARATOR 1 GEN PUR SC70-5; Manufacturer 1: Texas Instruments; Manufacturer Part Number 1: TLV3691IDCKR; Package/Footprint: SC-70-5; Supplier 1: Digi-Key; Supplier Part Number 1: 296-37910-1-ND; LCSC Part #: C180352
footprint TI_SC-70-5
pins: 1 IN+ (in), 2 GND (power), 3 IN- (in), 4 OUT (out), 5 VCC (power)

## TLV4051R5DBVR
designator U?  Manufacturer Part Number 1: TLV4051R5DBVR
IC COMPARATOR 1 VOL REF SOT23-5; Manufacturer 1: Texas Instruments; Supplier 1: Digi-Key; Supplier Part Number 1: 296-TLV4051R5DBVRCT-ND
footprint TI_SOT23-5
pins: 1 V+ (power), 2 V- (power), 3 NC, 4 IN (in), 5 OUT (out)

## TLV75801PDBVR
designator U?  Manufacturer Part Number 1: TLV75801PDBVR
IC REG LIN POS ADJ 500MA SOT23-5; Manufacturer 1: Texas Instruments; Input Voltage (Max): 6V; Package/Footprint: SOT-25; Output Current: 500mA; Operating Temperature: -40°C - 125°C; Supplier 1: Digi-Key; Supplier Part Number 1: 296-TLV75801PDBVRCT-ND
footprint TI_SOT23-5
pins: 1 VIN (power), 2 GND (power), 3 EN, 4 FB (in), 5 VOUT (power)

## TMCS1101A1BQDRQ1
designator U?
Hall-Effect Current Sensor; Manufacturer_Name: Texas Instruments; Manufacturer_Part_Number: TMCS1101A1BQDRQ1; Datasheet Link: https://www.ti.com/lit/ds/symlink/tmcs1101-q1.pdf?HQS=dis-dk-null-digikeymode-dsf-pf-null-wwe&ts=1636812075055&ref_url=https%253A%252F%252Fwww.digikey.be%252F; Height: 1.75mm; Mouser Part Number: 595-TMCS1101A3BQDRQ1; Mouser Price/Stock: https://www.mouser.co.uk/ProductDetail/Texas-Instruments/TMCS1101A3BQDRQ1?qs=QNEnbhJQKvb740%252BlrUS3Og%3D%3D; Arrow Part Number: TMCS1101A3BQDRQ1; Arrow Price/Stock: https://www.arrow.com/en/products/tmcs1101a3bqdrq1/texas-instruments?region=nac
footprint SOIC127P600X175-8N
pins: 1 IN+_1, 2 IN+_2, 3 IN-_1, 4 IN-_2, 5 GND, 6 NC, 7 VOUT, 8 VS

## TPS1H200A-Q1
designator U?  Manufacturer Part Number 1: TPS1H200AQDGNRQ1
IC PWR DRIVER N-CHAN 1:1 8MSOP; Manufacturer 1: Texas Instruments; Package/Footprint: 8-TSSOP; Rds On (Typ): 200mOhm; Supplier 1: Digi-Key; Supplier Part Number 1: 296-50416-1-ND; Mounting Type: SMD; Verified: No
footprint DGN0008G (8-TSSOP, 8-MSOP (0.118", 3.00mm Width) Exposed Pad)
pins: 1 IN, 2 DIAG_EN, 3 ~{FAULT}, 4 CL, 5 DELAY, 6 GND, 7 OUT, 8 VS, 9 EP

## TPS2115ADRBR
designator U?
IC OR CTRLR SRC SELECT 8SON; Manufacturer 1: Texas Instruments; Manufacturer Part Number 1: TPS2115ADRBR; Package/Footprint: 8-VDFN; Supplier 1: Digikey; Supplier Part Number 1: 296-23394-1-ND
footprint TI_8-VSON
pins: 1 STAT (out), 2 D0 (in), 3 D1 (in), 4 ILIM (in), 5 GND (power), 6 IN2 (power), 7 OUT (power), 8 IN1 (power), 9 GND_EP (power)

## TPS3700DSER
designator U?  Manufacturer Part Number 1: TPS3700DSER
IC COMP WINDOW W/REF 6WSON; Manufacturer 1: Texas Instruments; Supplier 1: Digi-Key; Supplier Part Number 1: 296-40742-1-ND
footprint DSE0006A
pins: 1 OUTB, 2 VDD, 3 INB-, 4 INA+, 5 GND, 6 OUTA

## TPS3808G33MDBVREP
designator U?  Manufacturer Part Number 1: TPS3808G33MDBVREP
IC SUPERVISOR 1 CHANNEL SOT23-6; Manufacturer 1: Texas Instruments; Supplier 1: Digi-Key; Supplier Part Number 1: 296-23569-1-ND
footprint TPS3808G33MDBVREP
pins: 1 RESET, 2 GND, 3 MR, 4 Ct, 5 SENSE, 6 VDD

## TPS22917DBVR
designator U?
IC PWR SWITCH P-CHAN 1:1 SOT23-6; Manufacturer 1: Texas Instruments; Manufacturer Part Number 1: TPS22917DBVR; Package/Footprint: SOT-23-6; Supplier 1: Digi-Key; Supplier Part Number 1: 296-50498-1-ND; LCSC Part #: C2681320
footprint SOT23-6 (SOT23, 6-Leads, Body 3.05x1.75mm, Pitch 0.95mm, IPC Medium Density)
pins: 1 VIN (power), 2 GND (power), 3 ON (in), 4 CT (out), 5 QOD (out), 6 VOUT (power)

## TPS53015DGSR
designator U?  Manufacturer Part Number 1: TPS53015DGSR
IC REG CTRLR BUCK 10MSOP; Manufacturer 1: Texas Instruments; Supplier 1: Digi-Key; Supplier Part Number 1: 296-40777-1-ND
pins: 1 VFB, 2 PG, 3 VREG5, 4 EN, 5 VIN, 6 PGND, 7 DRVL, 8 SW, 9 DRVH, 10 VBST

## TPS54339
designator U?  Manufacturer Part Number 1: TPS54339DDAR
IC REG BUCK ADJUSTABLE 3A 8SOPWR; Manufacturer 1: Texas Instruments; Input Voltage (Min): 4.5V; Input Voltage (Max): 23V; Output Voltage (Min/Fixed): 0.76V; Output Voltage (Max): 7V; Switching Frequency: 600kHz; Supplier 1: Digi-Key; Supplier Part Number 1: 296-35686-1-ND; Output Current: 3A; Package: 8-PowerSOIC
footprint VREG_LM5017MR/NOPB
pins: 1 VBST, 2 VIN, 3 SW, 4 GND, 5 VFB, 6 VREG5, 7 EN, 8 SS, 9 GND

## TPS61023DRLR
designator U?
IC REG BOOST ADJ 3A SOT563; Manufacturer 1: Texas Instruments; Manufacturer Part Number 1: TPS61023DRLR; Package/Footprint: SOT-563; Supplier 1: Digikey; Supplier Part Number 1: 296-TPS61023DRLRCT-ND
footprint TI_SOT-563
pins: 1 FB (in), 2 EN (in), 3 VIN (power), 4 GND (power), 5 SW (power), 6 VOUT (power)

## TPS62740DSSR
designator U?
IC REG CONV BLUETTH 1OUT 12WSON; Manufacturer 1: Texas Instruments; Manufacturer Part Number 1: TPS62740DSSR; Package/Footprint: 12-WSON; Supplier 1: Digikey; Supplier Part Number 1: 296-39459-1-ND
footprint TI_12-WSON
pins: 1 VIN (power), 2 SW (power), 3 GND (power), 4 CTRL (in), 5 VOUT (power), 6 LOAD (power), 7 PG (out), 8 VSEL4, 9 VSEL3, 10 VSEL2, 11 VSEL1, 12 EN (in), 13 GND_EP (power)

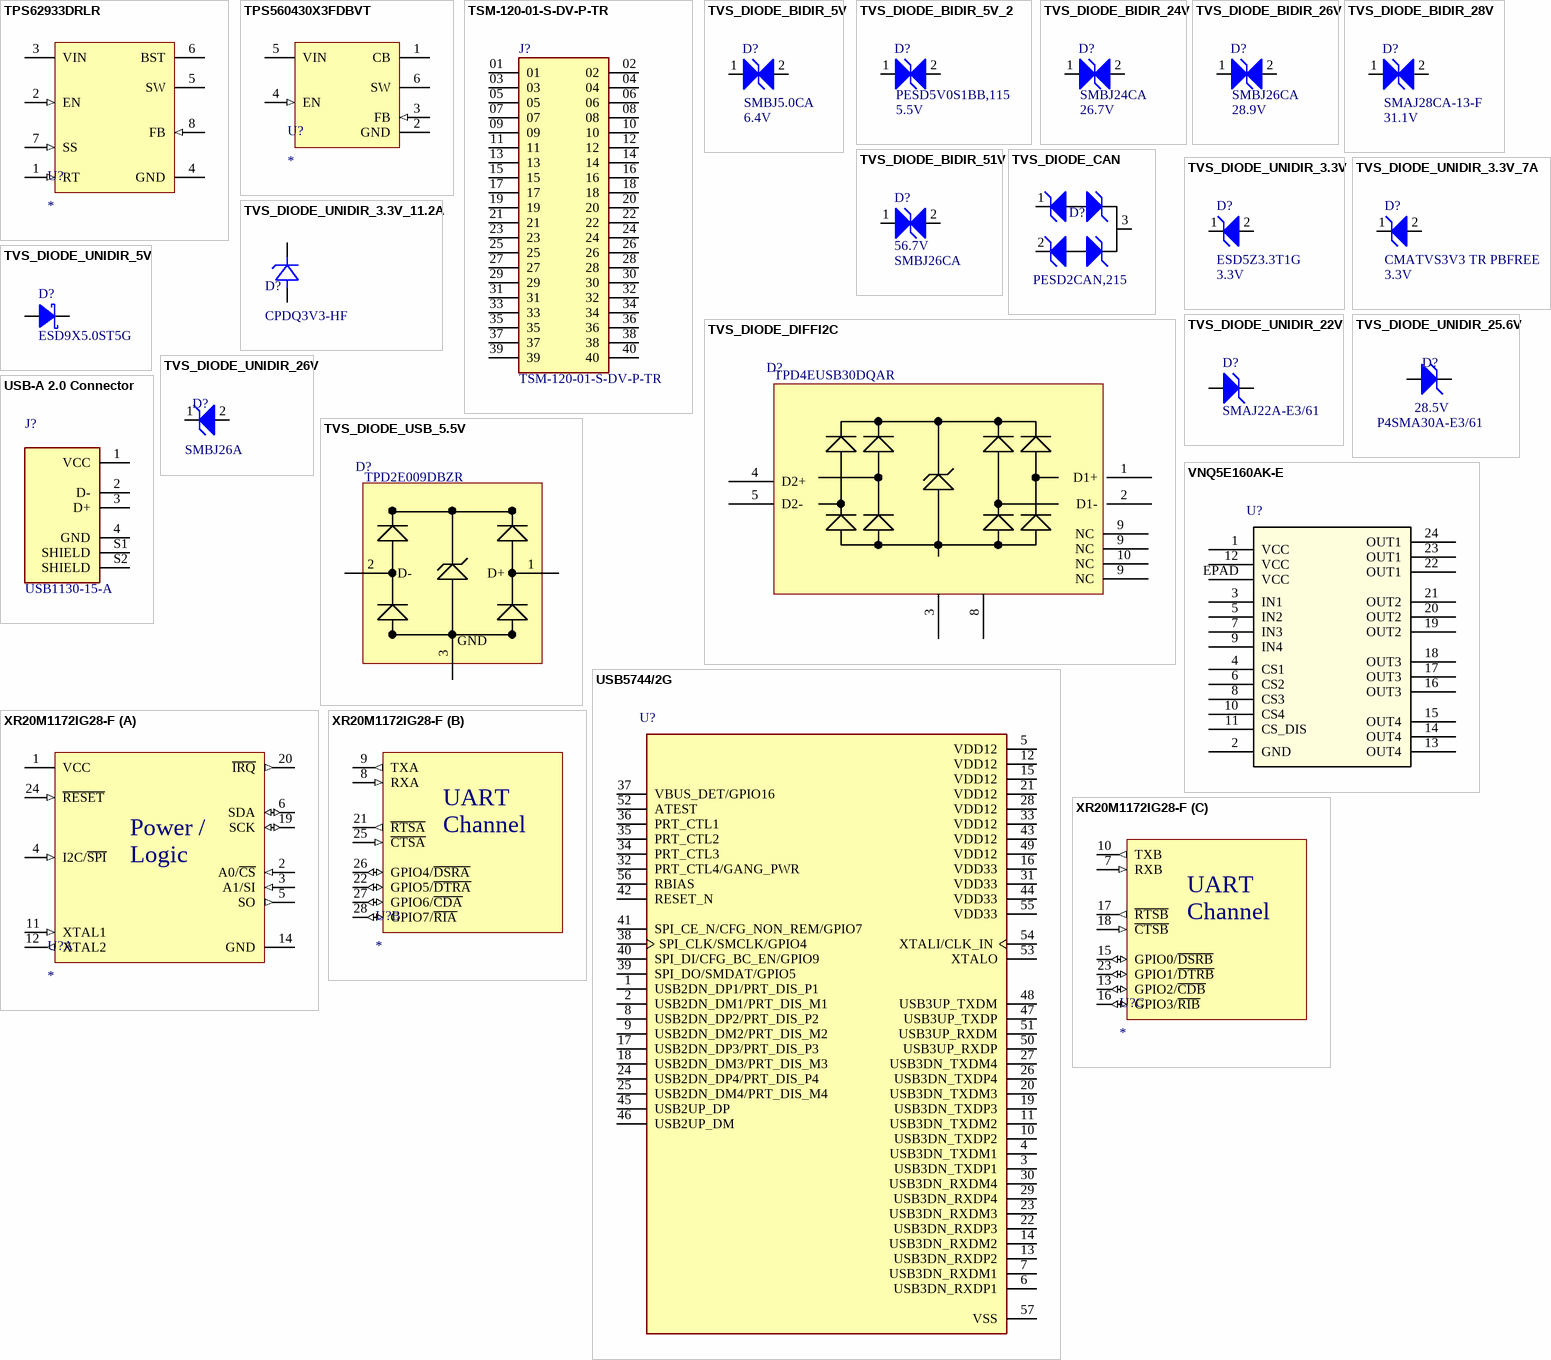
[diagram p29: symbols TPS62933DRLR to XR20M1172IG28-F]

## TPS62933DRLR
designator U?
IC REG BUCK ADJ 3A SOT583; Manufacturer 1: Texas Instruments; Manufacturer Part Number 1: TPS62933DRLR; Package/Footprint: SOT-583; Supplier 1: Digikey; Supplier Part Number 1: 296-TPS62933DRLRCT-ND
footprint TI_SOT-583
pins: 1 RT (in), 2 EN (in), 3 VIN (power), 4 GND (power), 5 SW (power), 6 BST (power), 7 SS (in), 8 FB (in)

## TPS560430X3FDBVT
designator U?
IC REG BUCK 3.3V 600MA SOT23-6; Manufacturer 1: Texas Instruments; Manufacturer Part Number 1: TPS560430X3FDBVT; Package/Footprint: SOT-23-6; Supplier 1: Digikey; Supplier Part Number 1: 296-53224-1-ND
footprint SOT23-6 (SOT23, 6-Leads, Body 3.05x1.75mm, Pitch 0.95mm, IPC Medium Density)
pins: 1 CB (power), 2 GND (power), 3 FB (in), 4 EN (in), 5 VIN (power), 6 SW (power)

## TSM-120-01-S-DV-P-TR
designator J?  Manufacturer Part Number 1: TSM-120-01-S-DV-P-TR
CONN HEADER SMD 40POS 2.54MM; Manufacturer 1: Samtec Inc.; Supplier 1: Digi-Key; Supplier Part Number 1: SAM14896CT-ND
footprint SAMTEC_TSM-120-01-S-DV-P-TR
pins: 01, 02, 03, 04, 05, 06, 07, 08, 09, 10, 11, 12, 13, 14, 15, 16, 17, 18, 19, 20, 21, 22, 23, 24, 25, 26, 27, 28, 29, 30, 31, 32, 33, 34, 35, 36, 37, 38, 39, 40

## TVS_DIODE_BIDIR_5V
designator D?  Voltage - Breakdown (Min): 6.4V  Manufacturer Part Number 1: SMBJ5.0CA
TVS DIODE 5V 9.2V SMB; Manufacturer 1: Littelfuse; Package/Footprint: SMB; Supplier Part Number 1: SMBJ5.0CALFCT-ND; Supplier 1: Digi-Key; Mounting Type: SMD; Voltage - Reverse Standoff (Typ): 5V; Voltage - Clamping (Max) @ Ipp: 9.2V; Verified: No; LCSC Part #: *
footprint TVS_DIODE_BIDIR_SMB (DO-214AA, SMB)
pins: 1, 2

## TVS_DIODE_BIDIR_5V_2
designator D?  Voltage - Breakdown (Min): 5.5V  Manufacturer Part Number 1: PESD5V0S1BB,115
TVS DIODE 5V 14V SOD-523; Manufacturer 1: Nexperia; Supplier 1: Digi-Key; Supplier Part Number 1: 1727-3838-1-ND; Voltage - Reverse Standoff (Typ): 5V; Mounting Type: SMD; Package/Footprint: SOD-523; Verified: No
footprint SOD523
pins: 1, 2

## TVS_DIODE_BIDIR_24V
designator D?  Voltage - Breakdown (Min): 26.7V  Manufacturer Part Number 1: SMBJ24CA
TVS DIODE 24V 38.9V SMB; Manufacturer 1: Littelfuse; Package/Footprint: SMB; Supplier Part Number 1: SMBJ24CALFCT-ND; Supplier 1: Digi-Key; Mounting Type: SMD; Voltage - Clamping (Max) @ Ipp: 38.9V; Voltage - Reverse Standoff (Typ): 24V
footprint TVS_DIODE_BIDIR_SMB (DO-214AA, SMB)
pins: 1, 2

## TVS_DIODE_BIDIR_26V
designator D?  Voltage - Breakdown (Min): 28.9V  Manufacturer Part Number 1: SMBJ26CA
TVS DIODE 26V 42.1V SMB; Manufacturer 1: Littelfuse; Package/Footprint: SMB; Supplier Part Number 1: SMBJ26CALFCT-ND; Supplier 1: Digi-Key; Mounting Type: SMD; Voltage - Clamping (Max) @ Ipp: 42.1V; LCSC Part #: C8835; Voltage - Reverse Standoff (Typ): 26V
footprint TVS_DIODE_BIDIR_SMB (DO-214AA, SMB)
pins: 1, 2

## TVS_DIODE_BIDIR_28V
designator D?  Voltage - Breakdown (Min): 31.1V  Manufacturer Part Number 1: SMAJ28CA-13-F
TVS DIODE 28V 45.4V SMA; Manufacturer 1: Diodes Incorporated; Voltage - Clamping (Max) @ Ipp: 45.4V; Package/Footprint: SMA; Supplier Part Number 1: SMAJ28CA-FDICT-ND; Supplier 1: Digi-Key; Verified: No
footprint DO-214AC (SMA)
pins: 1, 2

## TVS_DIODE_BIDIR_51V
designator D?  Voltage - Breakdown (Min): 56.7V  Manufacturer Part Number 1: SMBJ26CA
TVS DIODE 51VWM 82.4VC DO214AA; Manufacturer 1: Littelfuse; Package/Footprint: SMB; Voltage - Clamping (Max) @ Ipp: 82.4V; Voltage - Reverse Standoff (Typ): 51V; Mounting Type: SMD; Supplier 1: Digi-Key; Supplier Part Number 1: SMBJ51CALFCT-ND
footprint TVS_DIODE_BIDIR_SMB (DO-214AA, SMB)
pins: 1, 2

## TVS_DIODE_CAN
designator D?  Manufacturer Part Number 1: PESD2CAN,215
TVS DIODE 24V 41V SOT323-3; Manufacturer 1: Nexperia USA Inc.; Voltage - Breakdown (Min): 26.2V; Package/Footprint: SOT323-3; Supplier Part Number 1: 1727-3891-1-ND; Supplier 1: Digi-Key; Mounting Type: SMD; Verified: Yes; Voltage - Reverse Standoff (Typ): 24V; Voltage - Clamping (Max) @ Ipp: 41V
footprint TVS_DIODE_CAN (SOT23, 3-Leads, Body 2.95x2.80mm, Pitch 0.95mm, IPC Low Density)
pins: 1, 2, 3

## TVS_DIODE_DIFFI2C
designator D?  Manufacturer Part Number 1: TPD4EUSB30DQAR
TVS DIODE 5.5V 8V 10SON; Manufacturer 1: Texas Instruments; Package/Footprint: 10-USON; Voltage - Breakdown (Min): 7V; Supplier 1: Digi-Key; Mounting Type: SMD; Supplier Part Number 1: 296-28063-1-ND; Verified: No; Voltage - Reverse Standoff (Typ): 5.5V; Voltage - Clamping (Max) @ Ipp: 8V
footprint DQA10
pins: 1 D1+, 2 D1-, 3 GND, 4 D2+, 5 D2-, 8 GND, 9 NC, 9 NC, 9 NC, 10 NC

## TVS_DIODE_UNIDIR_3.3V
designator D?  Voltage - Reverse Standoff (Typ): 3.3V  Manufacturer Part Number 1: ESD5Z3.3T1G
TVS DIODE 3.3V 14.1V SOD523; Manufacturer 1: ON Semiconductor; Package/Footprint: SOD-523; Voltage - Breakdown (Min): 5V; Supplier 1: Digi-Key; Mounting Type: SMD; Supplier Part Number 1: ESD5Z3.3T1GOSCT-ND; LCSC Part #: C61148; Voltage - Clamping (Max) @ Ipp: 14.1V
pins: 1, 2

## TVS_DIODE_UNIDIR_3.3V_7A
designator D?  Voltage - Reverse Standoff (Typ): 3.3V  Manufacturer Part Number 1: CMATVS3V3 TR PBFREE
TVS DIODE 3.3VWM 11VC SOD923; Manufacturer 1: Central Semiconductor Corp; Package/Footprint: SOD-923; Voltage - Breakdown (Min): 5V; Voltage - Clamping (Max) @ Ipp: 11V; Mounting Type: SMD; Supplier 1: Digi-Key; Supplier Part Number 1: 1514-CMATVS3V3TRPBFREECT-ND
footprint SOD-923
pins: 1, 2

## TVS_DIODE_UNIDIR_3.3V_11.2A
designator D?, comment CPDQ3V3-HF
TVS DIODE 3.3 VWM 14.1VC SODS923; Mfr_Name: Comchip; Type: DEV; Copyright: Copyright (C) 2021 Ultra Librarian. All rights reserved.; Manufacturer_Part_Number: CPDQ3V3-HF; RefDes: RefDes; Supplier 1: Digi-Key; Supplier Part Number 1: 641-1476-1-ND
footprint SOD-923
pins: 1, 2

## TVS_DIODE_UNIDIR_5V
designator D?  Manufacturer Part Number 1: ESD9X5.0ST5G
TVS DIODE 5VWM 12.3VC SOD923; Manufacturer 1: ON Semiconductor; Min Breakdown Voltage: 6.2V; Clamping Voltage-Max: 12.3V; Supplier 1: Digi-Key; Supplier Part Number 1: ESD9X5.0ST5GOSCT-ND
footprint SOD-923
pins: 1 Anode, 2 Cathode

## TVS_DIODE_UNIDIR_22V
designator D?  Manufacturer Part Number 1: SMAJ22A-E3/61
TVS DIODE 22V 35.5VC SMA; Manufacturer 1: Vishay Semiconductors; Voltage - Breakdown (Min): 24.4V; Voltage - Clamping (Max) @ Ipp: 35.5V; Supplier 1: Digi-Key; Supplier Part Number 1: SMAJ22A-E3/61GICT-ND; Voltage - Reverse Standoff (Typ): 22V; Mounting Type: SMD; Package/Footprint: SMA; Verified: No
footprint DO-214AC_UNI
pins: 1, 2

## TVS_DIODE_UNIDIR_25.6V
designator D?  Voltage - Breakdown (Min): 28.5V  Manufacturer Part Number 1: P4SMA30A-E3/61
TVS DIODE 25.6V 41.4V SMA; Manufacturer 1: Vishay Semiconductors; Supplier 1: Digi-Key; Mounting Type: SMD; Package/Footprint: SMA; Voltage - Clamping (Max) @ Ipp: 41.4V; Voltage - Reverse Standoff (Typ): 25.6V; Supplier Part Number 1: P4SMA30A-E3/61GICT-ND; Verified: No
footprint DO-214AC_UNI
pins: 1, 2

## TVS_DIODE_UNIDIR_26V
designator D?  Manufacturer Part Number 1: SMBJ26A
TVS DIODE 26V 42.1V SMB; Manufacturer 1: Littelfuse; Package/Footprint: SMB; Supplier Part Number 1: SMBJ26ALFCT-ND; Supplier 1: Digi-Key; Mounting Type: SMD; Verified: No
footprint TVS_DIODE_UNIDIRECTIONAL_SMB (SMBJ26A)
pins: 1 Cathode, 2 Anode

## TVS_DIODE_USB_5.5V
designator D?  Manufacturer Part Number 1: TPD2E009DBZR
TVS DIODE 5.5V 8V SOT23-3; Manufacturer 1: Texas Instruments; Supplier 1: Digi-Key; Verified: No; Package: SOT-23-3; Mounting Type: SMD; Supplier Part Number 1: 296-24657-1-ND
footprint SOT23-3 (SOT23, 3-Leads, Body 2.90x2.30mm, Pitch 0.95mm, IPC Medium Density)
pins: 1 D+, 2 D-, 3 GND

## USB5744/2G
designator U?
IC HUB CTLR USB 56VQFN; Manufacturer 1: Microchip Technology; Manufacturer Part Number 1: USB5744/2G; Standards: USB 3.1; Supply Voltage: 1.2V, 3.3V; Supplier 1: Digi-Key; Supplier Part Number 1: USB5744/2G-ND; Package: 56-VQFN (7x7)
footprint QFN40P700X700X100-57N
pins: 1 USB2DN_DP1/PRT_DIS_P1, 2 USB2DN_DM1/PRT_DIS_M1, 3 USB3DN_TXDP1, 4 USB3DN_TXDM1, 5 VDD12, 6 USB3DN_RXDP1, 7 USB3DN_RXDM1, 8 USB2DN_DP2/PRT_DIS_P2, 9 USB2DN_DM2/PRT_DIS_M2, 10 USB3DN_TXDP2, 11 USB3DN_TXDM2, 12 VDD12, 13 USB3DN_RXDP2, 14 USB3DN_RXDM2, 15 VDD12, 16 VDD33, 17 USB2DN_DP3/PRT_DIS_P3, 18 USB2DN_DM3/PRT_DIS_M3, 19 USB3DN_TXDP3, 20 USB3DN_TXDM3, 21 VDD12, 22 USB3DN_RXDP3, 23 USB3DN_RXDM3, 24 USB2DN_DP4/PRT_DIS_P4, 25 USB2DN_DM4/PRT_DIS_M4, 26 USB3DN_TXDP4, 27 USB3DN_TXDM4, 28 VDD12, 29 USB3DN_RXDP4, 30 USB3DN_RXDM4, 31 VDD33, 32 PRT_CTL4/GANG_PWR, 33 VDD12, 34 PRT_CTL3, 35 PRT_CTL2, 36 PRT_CTL1, 37 VBUS_DET/GPIO16, 38 SPI_CLK/SMCLK/GPIO4, 39 SPI_DO/SMDAT/GPIO5, 40 SPI_DI/CFG_BC_EN/GPIO9, 41 SPI_CE_N/CFG_NON_REM/GPIO7, 42 RESET_N, 43 VDD12, 44 VDD33, 45 USB2UP_DP, 46 USB2UP_DM, 47 USB3UP_TXDP, 48 USB3UP_TXDM, 49 VDD12, 50 USB3UP_RXDP, 51 USB3UP_RXDM, 52 ATEST, 53 XTALO, 54 XTALI/CLK_IN, 55 VDD33, 56 RBIAS, 57 VSS

## USB-A 2.0 Connector
designator J?  Manufacturer Part Number 1: USB1130-15-A
USB-A (USB TYPE-A) USB 2.0 Receptacle Connector 4 Position Through Hole, Right Angle; Manufacturer 1: GCT; Supplier 1: Digi-Key; Supplier Part Number 1: 2073-USB1130-15-ACT-ND
footprint GCT_USB1130-15-A_REVA
footprint USB-A 2.0 Connector
pins: 1 VCC, 2 D-, 3 D+, 4 GND, S1 SHIELD, S2 SHIELD

## VNQ5E160AK-E
designator U?
IC PWR DRVR N-CHAN 1:1 PWRSSO24; Manufacturer 1: STMicroelectronics; Manufacturer Part Number 1: VNQ5E160AK-E; Number of Outputs: 4; On-State Resistance: 160mR; Max Output Current: 10A; Output Current per Channel: 7A; Output Configuration: High Side; Load Voltage: 4.5V ~ 28V; Rds On (Typ): 160mOhm (Max); Supplier 1: Digi-Key; Category: Hot Swap Controllers; Mounting Type: SM; Number of Pins: 24; Min Operating Temperature: -40°C; Max Operating Temperature: 150°C; Series: VIPower™; Lead Free: Lead Free; ComponentLink1URL: https://datasheet.ciiva.com/1956/cd00163285-1956669.pdf?src-supplier=Digi-Key; ComponentLink1Description: https://datasheet.ciiva.com/1956/cd00163285-1956669.pdf?src-supplier=Digi-Key; Supplier Part Number 1: 497-19256-ND; Verified: No
footprint PowerSSO-24_STM (Power Switch/Driver 1:1 N-Channel 13.5A PowerSSO-24)
pins: 1 VCC (power), 2 GND (power), 3 IN1, 4 CS1, 5 IN2, 6 CS2, 7 IN3, 8 CS3, 9 IN4, 10 CS4, 11 CS_DIS, 12 VCC (power), 13 OUT4, 14 OUT4, 15 OUT4, 16 OUT3, 17 OUT3, 18 OUT3, 19 OUT2, 20 OUT2, 21 OUT2, 22 OUT1, 23 OUT1, 24 OUT1, EPAD VCC (power)

## XR20M1172IG28-F
designator U?
IC UART FIFO I2C/SPI 64B 28TSSOP; Manufacturer 1: MaxLinear, Inc.; Manufacturer Part Number 1: XR20M1172IG28-F; Footprint: 28-TSSOP; Supplier 1: Digikey; Supplier Part Number 1: 1016-1298-5-ND
footprint MAX_28-TSSOP
part A pins: 1 VCC (power), 2 A0/~{CS} (in), 3 A1/SI (in), 4 I2C/~{SPI} (in), 5 SO (out), 6 SDA (io), 11 XTAL1 (in), 12 XTAL2 (out), 14 GND (power), 19 SCK (io), 20 ~{IRQ} (out), 24 ~{RESET} (in)
part B pins: 8 RXA (in), 9 TXA (out), 21 ~{RTSA} (out), 22 GPIO5/~{DTRA} (io), 25 ~{CTSA} (in), 26 GPIO4/~{DSRA} (io), 27 GPIO6/~{CDA} (io), 28 GPIO7/~{RIA} (io)
part C pins: 7 RXB (in), 10 TXB (out), 13 GPIO2/~{CDB} (io), 15 GPIO0/~{DSRB} (io), 16 GPIO3/~{RIB} (io), 17 ~{RTSB} (out), 18 ~{CTSB} (in), 23 GPIO1/~{DTRB} (io)
part A text: Power / / Logic
part B text: UART / Channel A
part C text: UART / Channel B